# Altium integrated library Linear Technology PMIC-Switching Reg LT1074-LT8705.IntLib: 2252 symbols (part 81 of 124)
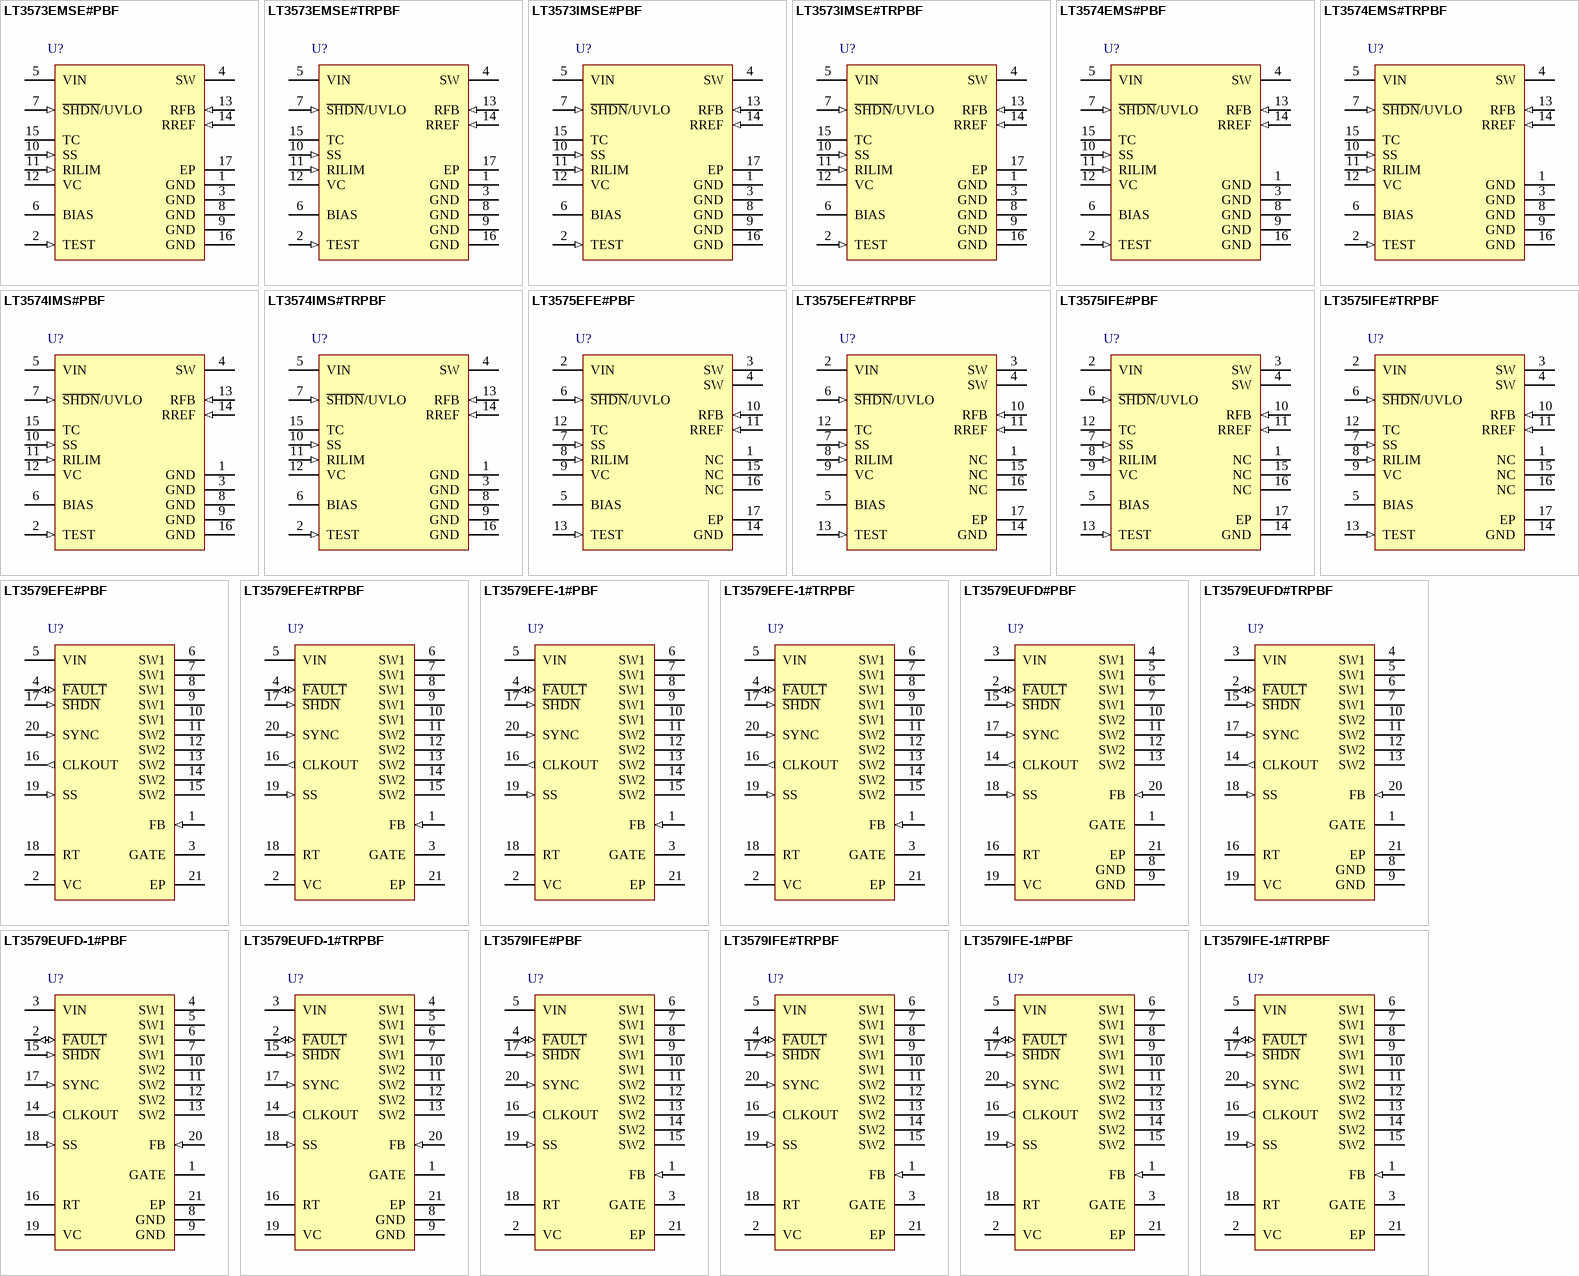
[diagram p151: symbols LT3573EMSE#PBF to LT3579IFE-1#TRPBF]

## LT3575IFE#TRPBF
designator U?
Isolated Flyback Converter without an Opto-Coupler, 16-pin SOP (FE-16-EPV-BA), -40 to 125 deC, Pb-Free, Tape and Reel; Manufacturer: Linear Technology; PartNumber: LT3575IFE#TRPBF; Number of Outputs: 1; PackageReference: FE-16; PackageDescription: 16-Pin Plastic TSSOP, Body 5 x 4.4 mm, Pitch 0.65 mm; Supplier 1: Digi-Key; Supplier Part Number 1: LT3575IFE#TRPBF-ND; RoHS: TRUE
footprint LT-FE-16-EPV-BA_N (SOP, 16-Leads, Body 5x4.4mm, Pitch 0.65mm, Thermal Pad 2.74x2.74mm, IPC Medium Density)
footprint LT-FE-16-EPV-BA_L (SOP, 16-Leads, Body 5x4.4mm, Pitch 0.65mm, Thermal Pad 2.74x2.74mm, IPC High Density)
footprint LT-FE-16-EPV-BA_M (SOP, 16-Leads, Body 5x4.4mm, Pitch 0.65mm, Thermal Pad 2.74x2.74mm, IPC Low Density)
pins: 1 NC "No Connect Pins. Can be left open or connected to any ground plane.", 2 VIN (power) "Input Voltage. This pin supplies current to the internal start-up circuitry and as a reference voltage for the DCM comparator and feedback circuitry. This pin must be locally bypassed with a capacitor.", 3 SW (power) "Collector Node of the Output Switch. This pin has large currents flowing through it. Keep the traces to the switching components as short as possible to minimize electromagnetic radiation and voltage spikes.", 4 SW (power) "Collector Node of the Output Switch. This pin has large currents flowing through it. Keep the traces to the switching components as short as possible to minimize electromagnetic radiation and voltage spikes.", 5 BIAS (power) "Bias Voltage. This pin supplies current to the switch driver and internal circuitry of the LT3575. This pin must be locally bypassed with a capacitor. This pin may also be connected to VIN if a third winding is not used and (See Datasheet)", 6 ~{SHDN}/UVLO (in) "Shutdown/Undervoltage Lockout. A resistor divider connected to VIN is tied to this pin to program the minimum input voltage at which the LT3575 will operate. At a voltage below ~0.7V, the part draws no quiescent current. (See Datasheet)", 7 SS (in) "Soft-Start Pin. Place a soft-start capacitor here to limit start-up inrush current and output voltage ramp rate. Switching starts when the voltage at this pin reaches ~0.7V.", 8 RILIM (in) "Maximum Current Limit Adjust Pin. A resistor should be tied to this pin to ground to set the current limit. Use a 10k resistor for the full current capabilities of the switch.", 9 VC "Compensation Pin for Internal Error Amplifier. Connect a series RC from this pin to ground to compensate the switching regulator. A 100pF capacitor in parallel helps eliminate noise.", 10 RFB (in) "Input Pin for External Feedback Resistor. This pin is connected to the transformer primary (VSW). The ratio of this resistor to the RREF resistor, times the internal bandgap reference, determines the output voltage (plus the (See Datasheet)", 11 RREF (in) "Input Pin for External Ground-Referred Reference Resistor. This resistor should be in the range of 6k, but for convenience, need not be precisely this value. For nonisolated applications, a traditional resistor voltage (See Datasheet)", 12 TC "Output Voltage Temperature Compensation. Connect a resistor to ground to produce a current proportional to absolute temperature to be sourced into the RREF node. ITC = 0.55V/RTC.", 13 TEST (in) "This pin is used for testing purposes only and must be connected to ground for the part to operate properly.", 14 GND (power) "Ground. The exposed pad of the package provides both electrical contact to ground and good thermal contact to the printed circuit board. The exposed pad must be soldered to the circuit board for proper operation and should (See Datasheet)", 15 NC "No Connect Pins. Can be left open or connected to any ground plane.", 16 NC "No Connect Pins. Can be left open or connected to any ground plane.", 17 EP (power) "Ground. The exposed pad of the package provides both electrical contact to ground and good thermal contact to the printed circuit board. The exposed pad must be soldered to the circuit board for proper operation and should (See Datasheet)"

## LT3579EFE#PBF
designator U?
6 A Boost / Inverting DC/DC Converter with Fault Protection, 20-pin SOP (FE-20-EPV-CB), -40 to 125 deC, Pb-Free; Manufacturer: Linear Technology; PartNumber: LT3579EFE#PBF; Number of Outputs: 1; PackageReference: FE-20; PackageDescription: 20-Pin Plastic TSSOP, Body 6.5 x 4.4 mm, Pitch 0.65 mm; Supplier 1: Digi-Key; Supplier Part Number 1: LT3579EFE#PBF-ND; RoHS: TRUE
footprint LT-FE-20-EPV-CB_N (SOP, 20-Leads, Body 6.6x4.5mm, Pitch 0.65mm, Thermal Pad 3.86x2.74mm, IPC Medium Density)
footprint LT-FE-20-EPV-CB_L (SOP, 20-Leads, Body 6.6x4.5mm, Pitch 0.65mm, Thermal Pad 3.86x2.74mm, IPC High Density)
footprint LT-FE-20-EPV-CB_M (SOP, 20-Leads, Body 6.6x4.5mm, Pitch 0.65mm, Thermal Pad 3.86x2.74mm, IPC Low Density)
pins: 1 FB (in) "Positive and Negative Feedback Pin. For a Boost or Inverting Converter, tie a resistor from the FB pin to VOUT according to the following equations:", 2 VC "Error Amplifier Output Pin. Tie external compensation network to this pin.", 3 GATE (hiz) "PMOS Gate Drive Pin. The GATE pin is a pull-down current source, and can be used to drive the gate of an external PMOS transistor for output short circuit protection or output disconnect. The GATE pin current increases (See Datasheet)", 4 ~{FAULT} (io) "Fault Indication Pin. This active low, bidirectional pin can either be pulled low (below 750mV) by an external source, or internally by the chip to indicate a fault. When pulled low, this pin causes the power switches to (See Datasheet)", 5 VIN (power) "Input Supply Pin. Must be locally bypassed.", 6 SW1 "Master Switch Pin. This is the collector of the internal master NPN power switch. SW1 is designed to handle a peak collector current of 3.4A (minimum). Minimize the metal trace area connected to this pin to minimize EMI.", 7 SW1 "Master Switch Pin. This is the collector of the internal master NPN power switch. SW1 is designed to handle a peak collector current of 3.4A (minimum). Minimize the metal trace area connected to this pin to minimize EMI.", 8 SW1 "Master Switch Pin. This is the collector of the internal master NPN power switch. SW1 is designed to handle a peak collector current of 3.4A (minimum). Minimize the metal trace area connected to this pin to minimize EMI.", 9 SW1 "Master Switch Pin. This is the collector of the internal master NPN power switch. SW1 is designed to handle a peak collector current of 3.4A (minimum). Minimize the metal trace area connected to this pin to minimize EMI.", 10 SW1 "Master Switch Pin. This is the collector of the internal master NPN power switch. SW1 is designed to handle a peak collector current of 3.4A (minimum). Minimize the metal trace area connected to this pin to minimize EMI.", 11 SW2 "Slave Switch Pin. This is the collector of the internal slave NPN power switch. SW2 is designed to handle a peak collector current of 2.6A (minimum). Minimize the metal trace area connected to this pin to minimize EMI.", 12 SW2 "Slave Switch Pin. This is the collector of the internal slave NPN power switch. SW2 is designed to handle a peak collector current of 2.6A (minimum). Minimize the metal trace area connected to this pin to minimize EMI.", 13 SW2 "Slave Switch Pin. This is the collector of the internal slave NPN power switch. SW2 is designed to handle a peak collector current of 2.6A (minimum). Minimize the metal trace area connected to this pin to minimize EMI.", 14 SW2 "Slave Switch Pin. This is the collector of the internal slave NPN power switch. SW2 is designed to handle a peak collector current of 2.6A (minimum). Minimize the metal trace area connected to this pin to minimize EMI.", 15 SW2 "Slave Switch Pin. This is the collector of the internal slave NPN power switch. SW2 is designed to handle a peak collector current of 2.6A (minimum). Minimize the metal trace area connected to this pin to minimize EMI.", 16 CLKOUT (out) "Clock Output Pin. Use this pin to synchronize one or more other ICs to the LT3579. This pin oscillates at the same frequency as the internal oscillator of the part or as the SYNC pin. CLKOUT may also be used as a temperature (See Datasheet)", 17 ~{SHDN} (in) "Shutdown Pin. In conjunction with the UVLO (undervoltage lockout) circuit, this pin is used to enable/disable the chip and restart the soft-start sequence. Drive below 0.3V to disable the chip with very low quiescent current.(See Datasheet)", 18 RT "Timing Resistor Pin. Adjusts the LT3579’s switching frequency. Place a resistor from this pin to ground to set the frequency to a fixed free running level. Do not float this pin.", 19 SS (in) "Soft-Start Pin. Place a soft-start capacitor here. Upon start-up, the SS pin will be charged by a (nominally) 250kohm resistor to ~2.1V. During a fault, the SS pin will be slowly charged up and discharged as part of a (See Datasheet)", 20 SYNC (in) "To synchronize the switching frequency to an outside clock, simply drive this pin with a clock. The high voltage level of the clock must exceed 1.3V, and the low level must be less than 0.4V. Drive this pin to less than 0.4V (See Datasheet)", 21 EP (power) "Ground. Must be soldered directly to local ground plane."

## LT3579EFE#TRPBF
designator U?
6 A Boost / Inverting DC/DC Converter with Fault Protection, 20-pin SOP (FE-20-EPV-CB), -40 to 125 deC, Pb-Free, Tape and Reel; Manufacturer: Linear Technology; PartNumber: LT3579EFE#TRPBF; Number of Outputs: 1; PackageReference: FE-20; PackageDescription: 20-Pin Plastic TSSOP, Body 6.5 x 4.4 mm, Pitch 0.65 mm; Supplier 1: Digi-Key; Supplier Part Number 1: LT3579EFE#TRPBF-ND; RoHS: TRUE
footprint LT-FE-20-EPV-CB_N (SOP, 20-Leads, Body 6.6x4.5mm, Pitch 0.65mm, Thermal Pad 3.86x2.74mm, IPC Medium Density)
footprint LT-FE-20-EPV-CB_L (SOP, 20-Leads, Body 6.6x4.5mm, Pitch 0.65mm, Thermal Pad 3.86x2.74mm, IPC High Density)
footprint LT-FE-20-EPV-CB_M (SOP, 20-Leads, Body 6.6x4.5mm, Pitch 0.65mm, Thermal Pad 3.86x2.74mm, IPC Low Density)
pins: 1 FB (in) "Positive and Negative Feedback Pin. For a Boost or Inverting Converter, tie a resistor from the FB pin to VOUT according to the following equations:", 2 VC "Error Amplifier Output Pin. Tie external compensation network to this pin.", 3 GATE (hiz) "PMOS Gate Drive Pin. The GATE pin is a pull-down current source, and can be used to drive the gate of an external PMOS transistor for output short circuit protection or output disconnect. The GATE pin current increases (See Datasheet)", 4 ~{FAULT} (io) "Fault Indication Pin. This active low, bidirectional pin can either be pulled low (below 750mV) by an external source, or internally by the chip to indicate a fault. When pulled low, this pin causes the power switches to (See Datasheet)", 5 VIN (power) "Input Supply Pin. Must be locally bypassed.", 6 SW1 "Master Switch Pin. This is the collector of the internal master NPN power switch. SW1 is designed to handle a peak collector current of 3.4A (minimum). Minimize the metal trace area connected to this pin to minimize EMI.", 7 SW1 "Master Switch Pin. This is the collector of the internal master NPN power switch. SW1 is designed to handle a peak collector current of 3.4A (minimum). Minimize the metal trace area connected to this pin to minimize EMI.", 8 SW1 "Master Switch Pin. This is the collector of the internal master NPN power switch. SW1 is designed to handle a peak collector current of 3.4A (minimum). Minimize the metal trace area connected to this pin to minimize EMI.", 9 SW1 "Master Switch Pin. This is the collector of the internal master NPN power switch. SW1 is designed to handle a peak collector current of 3.4A (minimum). Minimize the metal trace area connected to this pin to minimize EMI.", 10 SW1 "Master Switch Pin. This is the collector of the internal master NPN power switch. SW1 is designed to handle a peak collector current of 3.4A (minimum). Minimize the metal trace area connected to this pin to minimize EMI.", 11 SW2 "Slave Switch Pin. This is the collector of the internal slave NPN power switch. SW2 is designed to handle a peak collector current of 2.6A (minimum). Minimize the metal trace area connected to this pin to minimize EMI.", 12 SW2 "Slave Switch Pin. This is the collector of the internal slave NPN power switch. SW2 is designed to handle a peak collector current of 2.6A (minimum). Minimize the metal trace area connected to this pin to minimize EMI.", 13 SW2 "Slave Switch Pin. This is the collector of the internal slave NPN power switch. SW2 is designed to handle a peak collector current of 2.6A (minimum). Minimize the metal trace area connected to this pin to minimize EMI.", 14 SW2 "Slave Switch Pin. This is the collector of the internal slave NPN power switch. SW2 is designed to handle a peak collector current of 2.6A (minimum). Minimize the metal trace area connected to this pin to minimize EMI.", 15 SW2 "Slave Switch Pin. This is the collector of the internal slave NPN power switch. SW2 is designed to handle a peak collector current of 2.6A (minimum). Minimize the metal trace area connected to this pin to minimize EMI.", 16 CLKOUT (out) "Clock Output Pin. Use this pin to synchronize one or more other ICs to the LT3579. This pin oscillates at the same frequency as the internal oscillator of the part or as the SYNC pin. CLKOUT may also be used as a temperature (See Datasheet)", 17 ~{SHDN} (in) "Shutdown Pin. In conjunction with the UVLO (undervoltage lockout) circuit, this pin is used to enable/disable the chip and restart the soft-start sequence. Drive below 0.3V to disable the chip with very low quiescent current.(See Datasheet)", 18 RT "Timing Resistor Pin. Adjusts the LT3579’s switching frequency. Place a resistor from this pin to ground to set the frequency to a fixed free running level. Do not float this pin.", 19 SS (in) "Soft-Start Pin. Place a soft-start capacitor here. Upon start-up, the SS pin will be charged by a (nominally) 250kohm resistor to ~2.1V. During a fault, the SS pin will be slowly charged up and discharged as part of a (See Datasheet)", 20 SYNC (in) "To synchronize the switching frequency to an outside clock, simply drive this pin with a clock. The high voltage level of the clock must exceed 1.3V, and the low level must be less than 0.4V. Drive this pin to less than 0.4V (See Datasheet)", 21 EP (power) "Ground. Must be soldered directly to local ground plane."

## LT3579EFE-1#PBF
designator U?
6 A Boost / Inverting DC/DC Converter with Fault Protection, 20-pin SOP (FE-20-EPV-CB), -40 to 125 deC, Pb-Free; Manufacturer: Linear Technology; PartNumber: LT3579EFE-1#PBF; Number of Outputs: 1; PackageReference: FE-20; PackageDescription: 20-Pin Plastic TSSOP, Body 6.5 x 4.4 mm, Pitch 0.65 mm; Supplier 1: Digi-Key; Supplier Part Number 1: LT3579EFE-1#PBF-ND; RoHS: TRUE
footprint LT-FE-20-EPV-CB_N (SOP, 20-Leads, Body 6.6x4.5mm, Pitch 0.65mm, Thermal Pad 3.86x2.74mm, IPC Medium Density)
footprint LT-FE-20-EPV-CB_L (SOP, 20-Leads, Body 6.6x4.5mm, Pitch 0.65mm, Thermal Pad 3.86x2.74mm, IPC High Density)
footprint LT-FE-20-EPV-CB_M (SOP, 20-Leads, Body 6.6x4.5mm, Pitch 0.65mm, Thermal Pad 3.86x2.74mm, IPC Low Density)
pins: 1 FB (in) "Positive and Negative Feedback Pin. For a Boost or Inverting Converter, tie a resistor from the FB pin to VOUT according to the following equations:", 2 VC "Error Amplifier Output Pin. Tie external compensation network to this pin.", 3 GATE (hiz) "PMOS Gate Drive Pin. The GATE pin is a pull-down current source, and can be used to drive the gate of an external PMOS transistor for output short circuit protection or output disconnect. The GATE pin current increases (See Datasheet)", 4 ~{FAULT} (io) "Fault Indication Pin. This active low, bidirectional pin can either be pulled low (below 750mV) by an external source, or internally by the chip to indicate a fault. When pulled low, this pin causes the power switches to (See Datasheet)", 5 VIN (power) "Input Supply Pin. Must be locally bypassed.", 6 SW1 "Master Switch Pin. This is the collector of the internal master NPN power switch. SW1 is designed to handle a peak collector current of 3.4A (minimum). Minimize the metal trace area connected to this pin to minimize EMI.", 7 SW1 "Master Switch Pin. This is the collector of the internal master NPN power switch. SW1 is designed to handle a peak collector current of 3.4A (minimum). Minimize the metal trace area connected to this pin to minimize EMI.", 8 SW1 "Master Switch Pin. This is the collector of the internal master NPN power switch. SW1 is designed to handle a peak collector current of 3.4A (minimum). Minimize the metal trace area connected to this pin to minimize EMI.", 9 SW1 "Master Switch Pin. This is the collector of the internal master NPN power switch. SW1 is designed to handle a peak collector current of 3.4A (minimum). Minimize the metal trace area connected to this pin to minimize EMI.", 10 SW1 "Master Switch Pin. This is the collector of the internal master NPN power switch. SW1 is designed to handle a peak collector current of 3.4A (minimum). Minimize the metal trace area connected to this pin to minimize EMI.", 11 SW2 "Slave Switch Pin. This is the collector of the internal slave NPN power switch. SW2 is designed to handle a peak collector current of 2.6A (minimum). Minimize the metal trace area connected to this pin to minimize EMI.", 12 SW2 "Slave Switch Pin. This is the collector of the internal slave NPN power switch. SW2 is designed to handle a peak collector current of 2.6A (minimum). Minimize the metal trace area connected to this pin to minimize EMI.", 13 SW2 "Slave Switch Pin. This is the collector of the internal slave NPN power switch. SW2 is designed to handle a peak collector current of 2.6A (minimum). Minimize the metal trace area connected to this pin to minimize EMI.", 14 SW2 "Slave Switch Pin. This is the collector of the internal slave NPN power switch. SW2 is designed to handle a peak collector current of 2.6A (minimum). Minimize the metal trace area connected to this pin to minimize EMI.", 15 SW2 "Slave Switch Pin. This is the collector of the internal slave NPN power switch. SW2 is designed to handle a peak collector current of 2.6A (minimum). Minimize the metal trace area connected to this pin to minimize EMI.", 16 CLKOUT (out) "Clock Output Pin. Use this pin to synchronize one or more other ICs to the LT3579. This pin oscillates at the same frequency as the internal oscillator of the part or as the SYNC pin. CLKOUT may also be used as a temperature (See Datasheet)", 17 ~{SHDN} (in) "Shutdown Pin. In conjunction with the UVLO (undervoltage lockout) circuit, this pin is used to enable/disable the chip and restart the soft-start sequence. Drive below 0.3V to disable the chip with very low quiescent current.(See Datasheet)", 18 RT "Timing Resistor Pin. Adjusts the LT3579’s switching frequency. Place a resistor from this pin to ground to set the frequency to a fixed free running level. Do not float this pin.", 19 SS (in) "Soft-Start Pin. Place a soft-start capacitor here. Upon start-up, the SS pin will be charged by a (nominally) 250kohm resistor to ~2.1V. During a fault, the SS pin will be slowly charged up and discharged as part of a (See Datasheet)", 20 SYNC (in) "To synchronize the switching frequency to an outside clock, simply drive this pin with a clock. The high voltage level of the clock must exceed 1.3V, and the low level must be less than 0.4V. Drive this pin to less than 0.4V (See Datasheet)", 21 EP (power) "Ground. Must be soldered directly to local ground plane."

## LT3579EFE-1#TRPBF
designator U?
6 A Boost / Inverting DC/DC Converter with Fault Protection, 20-pin SOP (FE-20-EPV-CB), -40 to 125 deC, Pb-Free, Tape and Reel; Manufacturer: Linear Technology; PartNumber: LT3579EFE-1#TRPBF; Number of Outputs: 1; PackageReference: FE-20; PackageDescription: 20-Pin Plastic TSSOP, Body 6.5 x 4.4 mm, Pitch 0.65 mm; Supplier 1: Digi-Key; Supplier Part Number 1: LT3579EFE-1#TRPBF-ND; RoHS: TRUE
footprint LT-FE-20-EPV-CB_N (SOP, 20-Leads, Body 6.6x4.5mm, Pitch 0.65mm, Thermal Pad 3.86x2.74mm, IPC Medium Density)
footprint LT-FE-20-EPV-CB_L (SOP, 20-Leads, Body 6.6x4.5mm, Pitch 0.65mm, Thermal Pad 3.86x2.74mm, IPC High Density)
footprint LT-FE-20-EPV-CB_M (SOP, 20-Leads, Body 6.6x4.5mm, Pitch 0.65mm, Thermal Pad 3.86x2.74mm, IPC Low Density)
pins: 1 FB (in) "Positive and Negative Feedback Pin. For a Boost or Inverting Converter, tie a resistor from the FB pin to VOUT according to the following equations:", 2 VC "Error Amplifier Output Pin. Tie external compensation network to this pin.", 3 GATE (hiz) "PMOS Gate Drive Pin. The GATE pin is a pull-down current source, and can be used to drive the gate of an external PMOS transistor for output short circuit protection or output disconnect. The GATE pin current increases (See Datasheet)", 4 ~{FAULT} (io) "Fault Indication Pin. This active low, bidirectional pin can either be pulled low (below 750mV) by an external source, or internally by the chip to indicate a fault. When pulled low, this pin causes the power switches to (See Datasheet)", 5 VIN (power) "Input Supply Pin. Must be locally bypassed.", 6 SW1 "Master Switch Pin. This is the collector of the internal master NPN power switch. SW1 is designed to handle a peak collector current of 3.4A (minimum). Minimize the metal trace area connected to this pin to minimize EMI.", 7 SW1 "Master Switch Pin. This is the collector of the internal master NPN power switch. SW1 is designed to handle a peak collector current of 3.4A (minimum). Minimize the metal trace area connected to this pin to minimize EMI.", 8 SW1 "Master Switch Pin. This is the collector of the internal master NPN power switch. SW1 is designed to handle a peak collector current of 3.4A (minimum). Minimize the metal trace area connected to this pin to minimize EMI.", 9 SW1 "Master Switch Pin. This is the collector of the internal master NPN power switch. SW1 is designed to handle a peak collector current of 3.4A (minimum). Minimize the metal trace area connected to this pin to minimize EMI.", 10 SW1 "Master Switch Pin. This is the collector of the internal master NPN power switch. SW1 is designed to handle a peak collector current of 3.4A (minimum). Minimize the metal trace area connected to this pin to minimize EMI.", 11 SW2 "Slave Switch Pin. This is the collector of the internal slave NPN power switch. SW2 is designed to handle a peak collector current of 2.6A (minimum). Minimize the metal trace area connected to this pin to minimize EMI.", 12 SW2 "Slave Switch Pin. This is the collector of the internal slave NPN power switch. SW2 is designed to handle a peak collector current of 2.6A (minimum). Minimize the metal trace area connected to this pin to minimize EMI.", 13 SW2 "Slave Switch Pin. This is the collector of the internal slave NPN power switch. SW2 is designed to handle a peak collector current of 2.6A (minimum). Minimize the metal trace area connected to this pin to minimize EMI.", 14 SW2 "Slave Switch Pin. This is the collector of the internal slave NPN power switch. SW2 is designed to handle a peak collector current of 2.6A (minimum). Minimize the metal trace area connected to this pin to minimize EMI.", 15 SW2 "Slave Switch Pin. This is the collector of the internal slave NPN power switch. SW2 is designed to handle a peak collector current of 2.6A (minimum). Minimize the metal trace area connected to this pin to minimize EMI.", 16 CLKOUT (out) "Clock Output Pin. Use this pin to synchronize one or more other ICs to the LT3579. This pin oscillates at the same frequency as the internal oscillator of the part or as the SYNC pin. CLKOUT may also be used as a temperature (See Datasheet)", 17 ~{SHDN} (in) "Shutdown Pin. In conjunction with the UVLO (undervoltage lockout) circuit, this pin is used to enable/disable the chip and restart the soft-start sequence. Drive below 0.3V to disable the chip with very low quiescent current.(See Datasheet)", 18 RT "Timing Resistor Pin. Adjusts the LT3579’s switching frequency. Place a resistor from this pin to ground to set the frequency to a fixed free running level. Do not float this pin.", 19 SS (in) "Soft-Start Pin. Place a soft-start capacitor here. Upon start-up, the SS pin will be charged by a (nominally) 250kohm resistor to ~2.1V. During a fault, the SS pin will be slowly charged up and discharged as part of a (See Datasheet)", 20 SYNC (in) "To synchronize the switching frequency to an outside clock, simply drive this pin with a clock. The high voltage level of the clock must exceed 1.3V, and the low level must be less than 0.4V. Drive this pin to less than 0.4V (See Datasheet)", 21 EP (power) "Ground. Must be soldered directly to local ground plane."

## LT3579EUFD#PBF
designator U?
6 A Boost / Inverting DC/DC Converter with Fault Protection, 20-pin QFN (UFD-20), -40 to 125 deC, Pb-Free; Manufacturer: Linear Technology; PartNumber: LT3579EUFD#PBF; Number of Outputs: 1; PackageReference: UFD-20; PackageDescription: 20-Pin Plastic QFN, Body 5 x 4 mm, Pitch 0.5 mm; Supplier 1: Digi-Key; Supplier Part Number 1: LT3579EUFD#PBF-ND; RoHS: TRUE
footprint LT-UFD-20_N (QFN, 20-Leads, Body 5.1x4.1mm, Pitch 0.5mm, Thermal Pad 2.65x3.65mm, IPC Medium Density)
footprint LT-UFD-20_L (QFN, 20-Leads, Body 5.1x4.1mm, Pitch 0.5mm, Thermal Pad 2.65x3.65mm, IPC High Density)
footprint LT-UFD-20_M (QFN, 20-Leads, Body 5.1x4.1mm, Pitch 0.5mm, Thermal Pad 2.65x3.65mm, IPC Low Density)
pins: 1 GATE (hiz) "PMOS Gate Drive Pin. The GATE pin is a pull-down current source, and can be used to drive the gate of an external PMOS transistor for output short circuit protection or output disconnect. The GATE pin current increases (See Datasheet)", 2 ~{FAULT} (io) "Fault Indication Pin. This active low, bidirectional pin can either be pulled low (below 750mV) by an external source, or internally by the chip to indicate a fault. When pulled low, this pin causes the power switches to (See Datasheet)", 3 VIN (power) "Input Supply Pin. Must be locally bypassed.", 4 SW1 "Master Switch Pin. This is the collector of the internal master NPN power switch. SW1 is designed to handle a peak collector current of 3.4A (minimum). Minimize the metal trace area connected to this pin to minimize EMI.", 5 SW1 "Master Switch Pin. This is the collector of the internal master NPN power switch. SW1 is designed to handle a peak collector current of 3.4A (minimum). Minimize the metal trace area connected to this pin to minimize EMI.", 6 SW1 "Master Switch Pin. This is the collector of the internal master NPN power switch. SW1 is designed to handle a peak collector current of 3.4A (minimum). Minimize the metal trace area connected to this pin to minimize EMI.", 7 SW1 "Master Switch Pin. This is the collector of the internal master NPN power switch. SW1 is designed to handle a peak collector current of 3.4A (minimum). Minimize the metal trace area connected to this pin to minimize EMI.", 8 GND (power) "Ground. Must be soldered directly to local ground plane.", 9 GND (power) "Ground. Must be soldered directly to local ground plane.", 10 SW2 "Slave Switch Pin. This is the collector of the internal slave NPN power switch. SW2 is designed to handle a peak collector current of 2.6A (minimum). Minimize the metal trace area connected to this pin to minimize EMI.", 11 SW2 "Slave Switch Pin. This is the collector of the internal slave NPN power switch. SW2 is designed to handle a peak collector current of 2.6A (minimum). Minimize the metal trace area connected to this pin to minimize EMI.", 12 SW2 "Slave Switch Pin. This is the collector of the internal slave NPN power switch. SW2 is designed to handle a peak collector current of 2.6A (minimum). Minimize the metal trace area connected to this pin to minimize EMI.", 13 SW2 "Slave Switch Pin. This is the collector of the internal slave NPN power switch. SW2 is designed to handle a peak collector current of 2.6A (minimum). Minimize the metal trace area connected to this pin to minimize EMI.", 14 CLKOUT (out) "Clock Output Pin. Use this pin to synchronize one or more other ICs to the LT3579. This pin oscillates at the same frequency as the internal oscillator of the part or as the SYNC pin. CLKOUT may also be used as a temperature (See Datasheet)", 15 ~{SHDN} (in) "Shutdown Pin. In conjunction with the UVLO (undervoltage lockout) circuit, this pin is used to enable/disable the chip and restart the soft-start sequence. Drive below 0.3V to disable the chip with very low quiescent current.(See Datasheet)", 16 RT "Timing Resistor Pin. Adjusts the LT3579’s switching frequency. Place a resistor from this pin to ground to set the frequency to a fixed free running level. Do not float this pin.", 17 SYNC (in) "To synchronize the switching frequency to an outside clock, simply drive this pin with a clock. The high voltage level of the clock must exceed 1.3V, and the low level must be less than 0.4V. Drive this pin to less than 0.4V (See Datasheet)", 18 SS (in) "Soft-Start Pin. Place a soft-start capacitor here. Upon start-up, the SS pin will be charged by a (nominally) 250kohm resistor to ~2.1V. During a fault, the SS pin will be slowly charged up and discharged as part of a (See Datasheet)", 19 VC "Error Amplifier Output Pin. Tie external compensation network to this pin.", 20 FB (in) "Positive and Negative Feedback Pin. For a Boost or Inverting Converter, tie a resistor from the FB pin to VOUT according to the following equations:", 21 EP (power) "Ground. Must be soldered directly to local ground plane."

## LT3579EUFD#TRPBF
designator U?
6 A Boost / Inverting DC/DC Converter with Fault Protection, 20-pin QFN (UFD-20), -40 to 125 deC, Pb-Free, Tape and Reel; Manufacturer: Linear Technology; PartNumber: LT3579EUFD#TRPBF; Number of Outputs: 1; PackageReference: UFD-20; PackageDescription: 20-Pin Plastic QFN, Body 5 x 4 mm, Pitch 0.5 mm; Supplier 1: Digi-Key; Supplier Part Number 1: LT3579EUFD#TRPBF-ND; RoHS: TRUE
footprint LT-UFD-20_N (QFN, 20-Leads, Body 5.1x4.1mm, Pitch 0.5mm, Thermal Pad 2.65x3.65mm, IPC Medium Density)
footprint LT-UFD-20_L (QFN, 20-Leads, Body 5.1x4.1mm, Pitch 0.5mm, Thermal Pad 2.65x3.65mm, IPC High Density)
footprint LT-UFD-20_M (QFN, 20-Leads, Body 5.1x4.1mm, Pitch 0.5mm, Thermal Pad 2.65x3.65mm, IPC Low Density)
pins: 1 GATE (hiz) "PMOS Gate Drive Pin. The GATE pin is a pull-down current source, and can be used to drive the gate of an external PMOS transistor for output short circuit protection or output disconnect. The GATE pin current increases (See Datasheet)", 2 ~{FAULT} (io) "Fault Indication Pin. This active low, bidirectional pin can either be pulled low (below 750mV) by an external source, or internally by the chip to indicate a fault. When pulled low, this pin causes the power switches to (See Datasheet)", 3 VIN (power) "Input Supply Pin. Must be locally bypassed.", 4 SW1 "Master Switch Pin. This is the collector of the internal master NPN power switch. SW1 is designed to handle a peak collector current of 3.4A (minimum). Minimize the metal trace area connected to this pin to minimize EMI.", 5 SW1 "Master Switch Pin. This is the collector of the internal master NPN power switch. SW1 is designed to handle a peak collector current of 3.4A (minimum). Minimize the metal trace area connected to this pin to minimize EMI.", 6 SW1 "Master Switch Pin. This is the collector of the internal master NPN power switch. SW1 is designed to handle a peak collector current of 3.4A (minimum). Minimize the metal trace area connected to this pin to minimize EMI.", 7 SW1 "Master Switch Pin. This is the collector of the internal master NPN power switch. SW1 is designed to handle a peak collector current of 3.4A (minimum). Minimize the metal trace area connected to this pin to minimize EMI.", 8 GND (power) "Ground. Must be soldered directly to local ground plane.", 9 GND (power) "Ground. Must be soldered directly to local ground plane.", 10 SW2 "Slave Switch Pin. This is the collector of the internal slave NPN power switch. SW2 is designed to handle a peak collector current of 2.6A (minimum). Minimize the metal trace area connected to this pin to minimize EMI.", 11 SW2 "Slave Switch Pin. This is the collector of the internal slave NPN power switch. SW2 is designed to handle a peak collector current of 2.6A (minimum). Minimize the metal trace area connected to this pin to minimize EMI.", 12 SW2 "Slave Switch Pin. This is the collector of the internal slave NPN power switch. SW2 is designed to handle a peak collector current of 2.6A (minimum). Minimize the metal trace area connected to this pin to minimize EMI.", 13 SW2 "Slave Switch Pin. This is the collector of the internal slave NPN power switch. SW2 is designed to handle a peak collector current of 2.6A (minimum). Minimize the metal trace area connected to this pin to minimize EMI.", 14 CLKOUT (out) "Clock Output Pin. Use this pin to synchronize one or more other ICs to the LT3579. This pin oscillates at the same frequency as the internal oscillator of the part or as the SYNC pin. CLKOUT may also be used as a temperature (See Datasheet)", 15 ~{SHDN} (in) "Shutdown Pin. In conjunction with the UVLO (undervoltage lockout) circuit, this pin is used to enable/disable the chip and restart the soft-start sequence. Drive below 0.3V to disable the chip with very low quiescent current.(See Datasheet)", 16 RT "Timing Resistor Pin. Adjusts the LT3579’s switching frequency. Place a resistor from this pin to ground to set the frequency to a fixed free running level. Do not float this pin.", 17 SYNC (in) "To synchronize the switching frequency to an outside clock, simply drive this pin with a clock. The high voltage level of the clock must exceed 1.3V, and the low level must be less than 0.4V. Drive this pin to less than 0.4V (See Datasheet)", 18 SS (in) "Soft-Start Pin. Place a soft-start capacitor here. Upon start-up, the SS pin will be charged by a (nominally) 250kohm resistor to ~2.1V. During a fault, the SS pin will be slowly charged up and discharged as part of a (See Datasheet)", 19 VC "Error Amplifier Output Pin. Tie external compensation network to this pin.", 20 FB (in) "Positive and Negative Feedback Pin. For a Boost or Inverting Converter, tie a resistor from the FB pin to VOUT according to the following equations:", 21 EP (power) "Ground. Must be soldered directly to local ground plane."

## LT3579EUFD-1#PBF
designator U?
6 A Boost / Inverting DC/DC Converter with Fault Protection, 20-pin QFN (UFD-20), -40 to 125 deC, Pb-Free; Manufacturer: Linear Technology; PartNumber: LT3579EUFD-1#PBF; Number of Outputs: 1; PackageReference: UFD-20; PackageDescription: 20-Pin Plastic QFN, Body 5 x 4 mm, Pitch 0.5 mm; Supplier 1: Digi-Key; Supplier Part Number 1: LT3579EUFD-1#PBF-ND; RoHS: TRUE
footprint LT-UFD-20_N (QFN, 20-Leads, Body 5.1x4.1mm, Pitch 0.5mm, Thermal Pad 2.65x3.65mm, IPC Medium Density)
footprint LT-UFD-20_L (QFN, 20-Leads, Body 5.1x4.1mm, Pitch 0.5mm, Thermal Pad 2.65x3.65mm, IPC High Density)
footprint LT-UFD-20_M (QFN, 20-Leads, Body 5.1x4.1mm, Pitch 0.5mm, Thermal Pad 2.65x3.65mm, IPC Low Density)
pins: 1 GATE (hiz) "PMOS Gate Drive Pin. The GATE pin is a pull-down current source, and can be used to drive the gate of an external PMOS transistor for output short circuit protection or output disconnect. The GATE pin current increases (See Datasheet)", 2 ~{FAULT} (io) "Fault Indication Pin. This active low, bidirectional pin can either be pulled low (below 750mV) by an external source, or internally by the chip to indicate a fault. When pulled low, this pin causes the power switches to (See Datasheet)", 3 VIN (power) "Input Supply Pin. Must be locally bypassed.", 4 SW1 "Master Switch Pin. This is the collector of the internal master NPN power switch. SW1 is designed to handle a peak collector current of 3.4A (minimum). Minimize the metal trace area connected to this pin to minimize EMI.", 5 SW1 "Master Switch Pin. This is the collector of the internal master NPN power switch. SW1 is designed to handle a peak collector current of 3.4A (minimum). Minimize the metal trace area connected to this pin to minimize EMI.", 6 SW1 "Master Switch Pin. This is the collector of the internal master NPN power switch. SW1 is designed to handle a peak collector current of 3.4A (minimum). Minimize the metal trace area connected to this pin to minimize EMI.", 7 SW1 "Master Switch Pin. This is the collector of the internal master NPN power switch. SW1 is designed to handle a peak collector current of 3.4A (minimum). Minimize the metal trace area connected to this pin to minimize EMI.", 8 GND (power) "Ground. Must be soldered directly to local ground plane.", 9 GND (power) "Ground. Must be soldered directly to local ground plane.", 10 SW2 "Slave Switch Pin. This is the collector of the internal slave NPN power switch. SW2 is designed to handle a peak collector current of 2.6A (minimum). Minimize the metal trace area connected to this pin to minimize EMI.", 11 SW2 "Slave Switch Pin. This is the collector of the internal slave NPN power switch. SW2 is designed to handle a peak collector current of 2.6A (minimum). Minimize the metal trace area connected to this pin to minimize EMI.", 12 SW2 "Slave Switch Pin. This is the collector of the internal slave NPN power switch. SW2 is designed to handle a peak collector current of 2.6A (minimum). Minimize the metal trace area connected to this pin to minimize EMI.", 13 SW2 "Slave Switch Pin. This is the collector of the internal slave NPN power switch. SW2 is designed to handle a peak collector current of 2.6A (minimum). Minimize the metal trace area connected to this pin to minimize EMI.", 14 CLKOUT (out) "Clock Output Pin. Use this pin to synchronize one or more other ICs to the LT3579. This pin oscillates at the same frequency as the internal oscillator of the part or as the SYNC pin. CLKOUT may also be used as a temperature (See Datasheet)", 15 ~{SHDN} (in) "Shutdown Pin. In conjunction with the UVLO (undervoltage lockout) circuit, this pin is used to enable/disable the chip and restart the soft-start sequence. Drive below 0.3V to disable the chip with very low quiescent current.(See Datasheet)", 16 RT "Timing Resistor Pin. Adjusts the LT3579’s switching frequency. Place a resistor from this pin to ground to set the frequency to a fixed free running level. Do not float this pin.", 17 SYNC (in) "To synchronize the switching frequency to an outside clock, simply drive this pin with a clock. The high voltage level of the clock must exceed 1.3V, and the low level must be less than 0.4V. Drive this pin to less than 0.4V (See Datasheet)", 18 SS (in) "Soft-Start Pin. Place a soft-start capacitor here. Upon start-up, the SS pin will be charged by a (nominally) 250kohm resistor to ~2.1V. During a fault, the SS pin will be slowly charged up and discharged as part of a (See Datasheet)", 19 VC "Error Amplifier Output Pin. Tie external compensation network to this pin.", 20 FB (in) "Positive and Negative Feedback Pin. For a Boost or Inverting Converter, tie a resistor from the FB pin to VOUT according to the following equations:", 21 EP (power) "Ground. Must be soldered directly to local ground plane."

## LT3579EUFD-1#TRPBF
designator U?
6 A Boost / Inverting DC/DC Converter with Fault Protection, 20-pin QFN (UFD-20), -40 to 125 deC, Pb-Free, Tape and Reel; Manufacturer: Linear Technology; PartNumber: LT3579EUFD-1#TRPBF; Number of Outputs: 1; PackageReference: UFD-20; PackageDescription: 20-Pin Plastic QFN, Body 5 x 4 mm, Pitch 0.5 mm; Supplier 1: Digi-Key; Supplier Part Number 1: LT3579EUFD-1#TRPBF-ND; RoHS: TRUE
footprint LT-UFD-20_N (QFN, 20-Leads, Body 5.1x4.1mm, Pitch 0.5mm, Thermal Pad 2.65x3.65mm, IPC Medium Density)
footprint LT-UFD-20_L (QFN, 20-Leads, Body 5.1x4.1mm, Pitch 0.5mm, Thermal Pad 2.65x3.65mm, IPC High Density)
footprint LT-UFD-20_M (QFN, 20-Leads, Body 5.1x4.1mm, Pitch 0.5mm, Thermal Pad 2.65x3.65mm, IPC Low Density)
pins: 1 GATE (hiz) "PMOS Gate Drive Pin. The GATE pin is a pull-down current source, and can be used to drive the gate of an external PMOS transistor for output short circuit protection or output disconnect. The GATE pin current increases (See Datasheet)", 2 ~{FAULT} (io) "Fault Indication Pin. This active low, bidirectional pin can either be pulled low (below 750mV) by an external source, or internally by the chip to indicate a fault. When pulled low, this pin causes the power switches to (See Datasheet)", 3 VIN (power) "Input Supply Pin. Must be locally bypassed.", 4 SW1 "Master Switch Pin. This is the collector of the internal master NPN power switch. SW1 is designed to handle a peak collector current of 3.4A (minimum). Minimize the metal trace area connected to this pin to minimize EMI.", 5 SW1 "Master Switch Pin. This is the collector of the internal master NPN power switch. SW1 is designed to handle a peak collector current of 3.4A (minimum). Minimize the metal trace area connected to this pin to minimize EMI.", 6 SW1 "Master Switch Pin. This is the collector of the internal master NPN power switch. SW1 is designed to handle a peak collector current of 3.4A (minimum). Minimize the metal trace area connected to this pin to minimize EMI.", 7 SW1 "Master Switch Pin. This is the collector of the internal master NPN power switch. SW1 is designed to handle a peak collector current of 3.4A (minimum). Minimize the metal trace area connected to this pin to minimize EMI.", 8 GND (power) "Ground. Must be soldered directly to local ground plane.", 9 GND (power) "Ground. Must be soldered directly to local ground plane.", 10 SW2 "Slave Switch Pin. This is the collector of the internal slave NPN power switch. SW2 is designed to handle a peak collector current of 2.6A (minimum). Minimize the metal trace area connected to this pin to minimize EMI.", 11 SW2 "Slave Switch Pin. This is the collector of the internal slave NPN power switch. SW2 is designed to handle a peak collector current of 2.6A (minimum). Minimize the metal trace area connected to this pin to minimize EMI.", 12 SW2 "Slave Switch Pin. This is the collector of the internal slave NPN power switch. SW2 is designed to handle a peak collector current of 2.6A (minimum). Minimize the metal trace area connected to this pin to minimize EMI.", 13 SW2 "Slave Switch Pin. This is the collector of the internal slave NPN power switch. SW2 is designed to handle a peak collector current of 2.6A (minimum). Minimize the metal trace area connected to this pin to minimize EMI.", 14 CLKOUT (out) "Clock Output Pin. Use this pin to synchronize one or more other ICs to the LT3579. This pin oscillates at the same frequency as the internal oscillator of the part or as the SYNC pin. CLKOUT may also be used as a temperature (See Datasheet)", 15 ~{SHDN} (in) "Shutdown Pin. In conjunction with the UVLO (undervoltage lockout) circuit, this pin is used to enable/disable the chip and restart the soft-start sequence. Drive below 0.3V to disable the chip with very low quiescent current.(See Datasheet)", 16 RT "Timing Resistor Pin. Adjusts the LT3579’s switching frequency. Place a resistor from this pin to ground to set the frequency to a fixed free running level. Do not float this pin.", 17 SYNC (in) "To synchronize the switching frequency to an outside clock, simply drive this pin with a clock. The high voltage level of the clock must exceed 1.3V, and the low level must be less than 0.4V. Drive this pin to less than 0.4V (See Datasheet)", 18 SS (in) "Soft-Start Pin. Place a soft-start capacitor here. Upon start-up, the SS pin will be charged by a (nominally) 250kohm resistor to ~2.1V. During a fault, the SS pin will be slowly charged up and discharged as part of a (See Datasheet)", 19 VC "Error Amplifier Output Pin. Tie external compensation network to this pin.", 20 FB (in) "Positive and Negative Feedback Pin. For a Boost or Inverting Converter, tie a resistor from the FB pin to VOUT according to the following equations:", 21 EP (power) "Ground. Must be soldered directly to local ground plane."

## LT3579IFE#PBF
designator U?
6 A Boost / Inverting DC/DC Converter with Fault Protection, 20-pin SOP (FE-20-EPV-CB), -40 to 125 deC, Pb-Free; Manufacturer: Linear Technology; PartNumber: LT3579IFE#PBF; Number of Outputs: 1; PackageReference: FE-20; PackageDescription: 20-Pin Plastic TSSOP, Body 6.5 x 4.4 mm, Pitch 0.65 mm; Supplier 1: Digi-Key; Supplier Part Number 1: LT3579IFE#PBF-ND; RoHS: TRUE
footprint LT-FE-20-EPV-CB_N (SOP, 20-Leads, Body 6.6x4.5mm, Pitch 0.65mm, Thermal Pad 3.86x2.74mm, IPC Medium Density)
footprint LT-FE-20-EPV-CB_L (SOP, 20-Leads, Body 6.6x4.5mm, Pitch 0.65mm, Thermal Pad 3.86x2.74mm, IPC High Density)
footprint LT-FE-20-EPV-CB_M (SOP, 20-Leads, Body 6.6x4.5mm, Pitch 0.65mm, Thermal Pad 3.86x2.74mm, IPC Low Density)
pins: 1 FB (in) "Positive and Negative Feedback Pin. For a Boost or Inverting Converter, tie a resistor from the FB pin to VOUT according to the following equations:", 2 VC "Error Amplifier Output Pin. Tie external compensation network to this pin.", 3 GATE (hiz) "PMOS Gate Drive Pin. The GATE pin is a pull-down current source, and can be used to drive the gate of an external PMOS transistor for output short circuit protection or output disconnect. The GATE pin current increases (See Datasheet)", 4 ~{FAULT} (io) "Fault Indication Pin. This active low, bidirectional pin can either be pulled low (below 750mV) by an external source, or internally by the chip to indicate a fault. When pulled low, this pin causes the power switches to (See Datasheet)", 5 VIN (power) "Input Supply Pin. Must be locally bypassed.", 6 SW1 "Master Switch Pin. This is the collector of the internal master NPN power switch. SW1 is designed to handle a peak collector current of 3.4A (minimum). Minimize the metal trace area connected to this pin to minimize EMI.", 7 SW1 "Master Switch Pin. This is the collector of the internal master NPN power switch. SW1 is designed to handle a peak collector current of 3.4A (minimum). Minimize the metal trace area connected to this pin to minimize EMI.", 8 SW1 "Master Switch Pin. This is the collector of the internal master NPN power switch. SW1 is designed to handle a peak collector current of 3.4A (minimum). Minimize the metal trace area connected to this pin to minimize EMI.", 9 SW1 "Master Switch Pin. This is the collector of the internal master NPN power switch. SW1 is designed to handle a peak collector current of 3.4A (minimum). Minimize the metal trace area connected to this pin to minimize EMI.", 10 SW1 "Master Switch Pin. This is the collector of the internal master NPN power switch. SW1 is designed to handle a peak collector current of 3.4A (minimum). Minimize the metal trace area connected to this pin to minimize EMI.", 11 SW2 "Slave Switch Pin. This is the collector of the internal slave NPN power switch. SW2 is designed to handle a peak collector current of 2.6A (minimum). Minimize the metal trace area connected to this pin to minimize EMI.", 12 SW2 "Slave Switch Pin. This is the collector of the internal slave NPN power switch. SW2 is designed to handle a peak collector current of 2.6A (minimum). Minimize the metal trace area connected to this pin to minimize EMI.", 13 SW2 "Slave Switch Pin. This is the collector of the internal slave NPN power switch. SW2 is designed to handle a peak collector current of 2.6A (minimum). Minimize the metal trace area connected to this pin to minimize EMI.", 14 SW2 "Slave Switch Pin. This is the collector of the internal slave NPN power switch. SW2 is designed to handle a peak collector current of 2.6A (minimum). Minimize the metal trace area connected to this pin to minimize EMI.", 15 SW2 "Slave Switch Pin. This is the collector of the internal slave NPN power switch. SW2 is designed to handle a peak collector current of 2.6A (minimum). Minimize the metal trace area connected to this pin to minimize EMI.", 16 CLKOUT (out) "Clock Output Pin. Use this pin to synchronize one or more other ICs to the LT3579. This pin oscillates at the same frequency as the internal oscillator of the part or as the SYNC pin. CLKOUT may also be used as a temperature (See Datasheet)", 17 ~{SHDN} (in) "Shutdown Pin. In conjunction with the UVLO (undervoltage lockout) circuit, this pin is used to enable/disable the chip and restart the soft-start sequence. Drive below 0.3V to disable the chip with very low quiescent current.(See Datasheet)", 18 RT "Timing Resistor Pin. Adjusts the LT3579’s switching frequency. Place a resistor from this pin to ground to set the frequency to a fixed free running level. Do not float this pin.", 19 SS (in) "Soft-Start Pin. Place a soft-start capacitor here. Upon start-up, the SS pin will be charged by a (nominally) 250kohm resistor to ~2.1V. During a fault, the SS pin will be slowly charged up and discharged as part of a (See Datasheet)", 20 SYNC (in) "To synchronize the switching frequency to an outside clock, simply drive this pin with a clock. The high voltage level of the clock must exceed 1.3V, and the low level must be less than 0.4V. Drive this pin to less than 0.4V (See Datasheet)", 21 EP (power) "Ground. Must be soldered directly to local ground plane."